# Altium schematic symbol library WL-OCHS.SchLib: 17 symbols
Pins are listed as number, name and electrical type; pins without a type are passive.

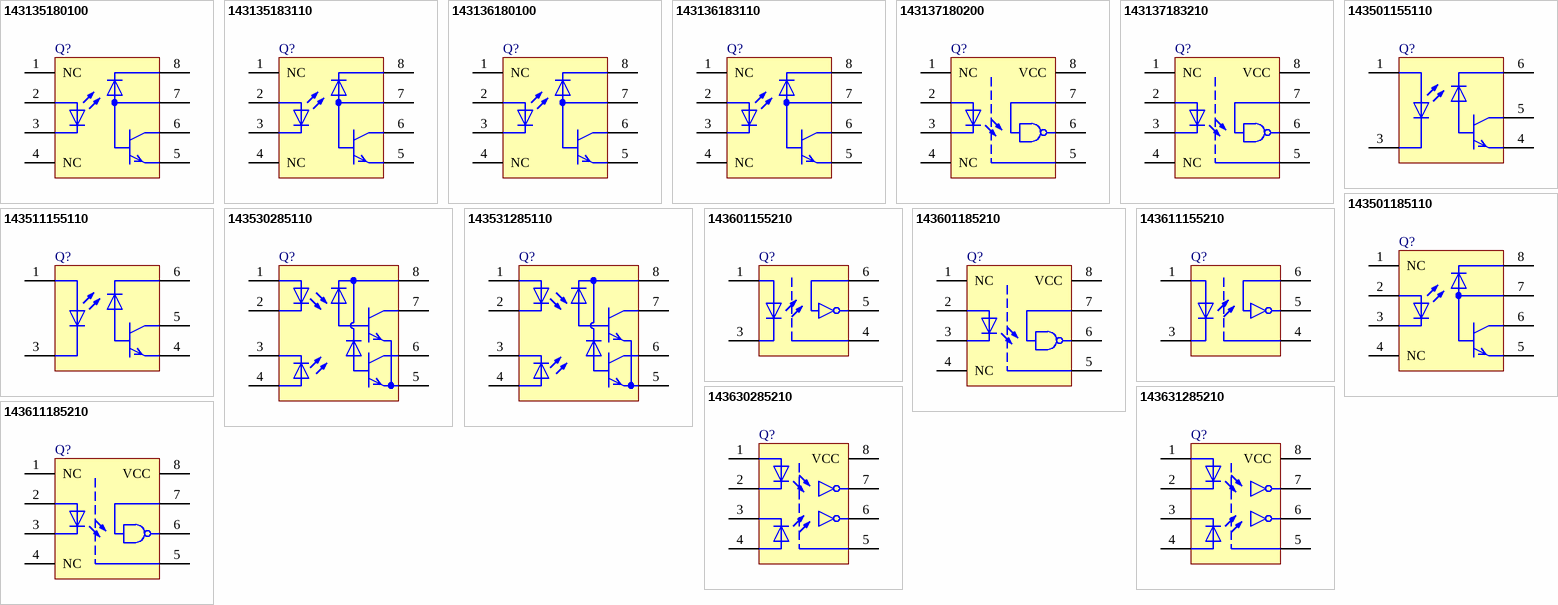
[diagram p0: symbols 143135180100 to 143631285210]

## 143135180100
designator Q?  (value not drawn)
WL-OCHS Optocoupler High Speed, THT, DIP 8_Standard, 5000V; Manufacturer: Wurth Elektronik; Common Mode Transient Immunity to Low Level: 1kV/us; Isolation Voltage: 5000V (RMS); Propagation Delay time to High Level: 1300ns; Manufacturer Part Number: 143135180100; Product Series: WL-OCHS; ComponentLink1Description: Website Link; ComponentLink1URL: https://www.we-online.com; ComponentLink2Description: Datasheet Link; ComponentLink2URL: https://www.we-online.com/components/products/datasheet/143135180100; Mount: Through Hole; Operating Temperature Min: -40degC; Operating Temperature Max: 110degC; Packaging: Tube; Case/Size Code: DIP 8_Standard; Length: 9.76mm; Width: 9.5mm; Height: 4.5mm
footprint WL-OCHS_DIP 8_Standard
pins: 1 NC, 2 ANODE, 3 CATHODE, 4 NC, 5 GND, 6 VOUT, 7 VBASE, 8 VCC

## 143135183110
designator Q?  (value not drawn)
WL-OCHS Optocoupler High Speed, SMT, DIP 8_SL-Type, 5000V; Manufacturer: Wurth Elektronik; Common Mode Transient Immunity to Low Level: 1kV/us; Isolation Voltage: 5000V (RMS); Propagation Delay time to High Level: 1300ns; Manufacturer Part Number: 143135183110; Product Series: WL-OCHS; ComponentLink1Description: Website Link; ComponentLink1URL: https://www.we-online.com; ComponentLink2Description: Datasheet Link; ComponentLink2URL: https://www.we-online.com/components/products/datasheet/143135183110; Mount: Surface Mount; Operating Temperature Min: -40degC; Operating Temperature Max: 110degC; Packaging: Tape and Reel; Case/Size Code: DIP 8_SL-Type; Length: 9.68mm; Width: 10.16mm; Height: 3.5mm
footprint WL-OCHS_DIP 8_SL-Type
pins: 1 NC, 2 ANODE, 3 CATHODE, 4 NC, 5 GND, 6 VOUT, 7 VBASE, 8 VCC

## 143136180100
designator Q?  (value not drawn)
WL-OCHS Optocoupler High Speed, THT, DIP 8_Standard, 5000V; Manufacturer: Wurth Elektronik; Common Mode Transient Immunity to Low Level: 1kV/us; Isolation Voltage: 5000V (RMS); Propagation Delay time to High Level: 600ns; Manufacturer Part Number: 143136180100; Product Series: WL-OCHS; ComponentLink1Description: Website Link; ComponentLink1URL: https://www.we-online.com; ComponentLink2Description: Datasheet Link; ComponentLink2URL: https://www.we-online.com/components/products/datasheet/143136180100; Mount: Through Hole; Operating Temperature Min: -40degC; Operating Temperature Max: 110degC; Packaging: Tube; Case/Size Code: DIP 8_Standard; Length: 9.76mm; Width: 9.5mm; Height: 4.5mm
footprint WL-OCHS_DIP 8_Standard
pins: 1 NC, 2 ANODE, 3 CATHODE, 4 NC, 5 GND, 6 VOUT, 7 VBASE, 8 VCC

## 143136183110
designator Q?  (value not drawn)
WL-OCHS Optocoupler High Speed, SMT, DIP 8_SL-Type, 5000V; Manufacturer: Wurth Elektronik; Common Mode Transient Immunity to Low Level: 1kV/us; Isolation Voltage: 5000V (RMS); Propagation Delay time to High Level: 600ns; Manufacturer Part Number: 143136183110; Product Series: WL-OCHS; ComponentLink1Description: Website Link; ComponentLink1URL: https://www.we-online.com; ComponentLink2Description: Datasheet Link; ComponentLink2URL: https://www.we-online.com/components/products/datasheet/143136183110; Mount: Surface Mount; Operating Temperature Min: -40degC; Operating Temperature Max: 110degC; Packaging: Tape and Reel; Case/Size Code: DIP 8_SL-Type; Length: 9.68mm; Width: 10.16mm; Height: 3.5mm
footprint WL-OCHS_DIP 8_SL-Type
pins: 1 NC, 2 ANODE, 3 CATHODE, 4 NC, 5 GND, 6 VOUT, 7 VBASE, 8 VCC

## 143137180200
designator Q?  (value not drawn)
WL-OCHS Optocoupler High Speed, THT, DIP 8_Standard, 5000V; Manufacturer: Wurth Elektronik; Common Mode Transient Immunity to Low Level: 5kV/us; Isolation Voltage: 5000V (RMS); Propagation Delay time to High Level: 41ns; Threshold Current: 3mA; Manufacturer Part Number: 143137180200; Product Series: WL-OCHS; ComponentLink1Description: Website Link; ComponentLink1URL: https://www.we-online.com; ComponentLink2Description: Datasheet Link; ComponentLink2URL: https://www.we-online.com/components/products/datasheet/143137180200; Mount: Through Hole; Operating Temperature Min: -40degC; Operating Temperature Max: 85degC; Packaging: Tube; Case/Size Code: DIP 8_Standard; Length: 9.76mm; Width: 9.5mm; Height: 4.5mm
footprint WL-OCHS_DIP 8_Standard
pins: 1 NC, 2 ANODE, 3 CATHODE, 4 NC, 5 GND, 6 VOUT, 7 EN, 8 VCC

## 143137183210
designator Q?  (value not drawn)
WL-OCHS Optocoupler High Speed, SMT, DIP 8_SL-Type, 5000V; Manufacturer: Wurth Elektronik; Common Mode Transient Immunity to Low Level: 5kV/us; Isolation Voltage: 5000V (RMS); Propagation Delay time to High Level: 41ns; Threshold Current: 3mA; Manufacturer Part Number: 143137183210; Product Series: WL-OCHS; ComponentLink1Description: Website Link; ComponentLink1URL: https://www.we-online.com; ComponentLink2Description: Datasheet Link; ComponentLink2URL: https://www.we-online.com/components/products/datasheet/143137183210; Mount: Surface Mount; Operating Temperature Min: -40degC; Operating Temperature Max: 85degC; Packaging: Tape and Reel; Case/Size Code: DIP 8_SL-Type; Length: 9.68mm; Width: 10.16mm; Height: 3.5mm
footprint WL-OCHS_DIP 8_SL-Type
pins: 1 NC, 2 ANODE, 3 CATHODE, 4 NC, 5 GND, 6 VOUT, 7 EN, 8 VCC

## 143501155110
designator Q?  (value not drawn)
WL-OCHS Optocoupler High Speed, SMT, SOP5, 3750V; Manufacturer: Wurth Elektronik; Common Mode Transient Immunity to Low Level: 5kV/us; Isolation Voltage: 3750V (RMS); Propagation Delay time to High Level: 150ns; Manufacturer Part Number: 143501155110; Product Series: WL-OCHS; ComponentLink1Description: Website Link; ComponentLink1URL: https://www.we-online.com; ComponentLink2Description: Datasheet Link; ComponentLink2URL: https://www.we-online.com/components/products/datasheet/143501155110; Mount: Surface Mount; Operating Temperature Min: -40degC; Operating Temperature Max: 110degC; Packaging: Tape and Reel; Case/Size Code: SOP5; Length: 4.1mm; Width: 7mm; Height: 2.05mm
footprint WL-OCHS_SOP5
pins: 1 ANODE, 3 CATHODE, 4 GND, 5 VOUT, 6 VCC

## 143501185110
designator Q?  (value not drawn)
WL-OCHS Optocoupler High Speed, SMT, SOP8, 3750V; Manufacturer: Wurth Elektronik; Common Mode Transient Immunity to Low Level: 5kV/us; Isolation Voltage: 3750V (RMS); Propagation Delay time to High Level: 150ns; Manufacturer Part Number: 143501185110; Product Series: WL-OCHS; ComponentLink1Description: Website Link; ComponentLink1URL: https://www.we-online.com; ComponentLink2Description: Datasheet Link; ComponentLink2URL: https://www.we-online.com/components/products/datasheet/143501185110; Mount: Surface Mount; Operating Temperature Min: -40degC; Operating Temperature Max: 110degC; Packaging: Tape and Reel; Case/Size Code: SOP8; Length: 5.08mm; Width: 6mm; Height: 3.18mm
footprint WL-OCHS_SOP8
pins: 1 NC, 2 ANODE, 3 CATHODE, 4 NC, 5 GND, 6 VOUT, 7 VBASE, 8 VCC

## 143511155110
designator Q?  (value not drawn)
WL-OCHS Optocoupler High Speed, SMT, SOP5, 3750V; Manufacturer: Wurth Elektronik; Common Mode Transient Immunity to Low Level: 15kV/us; Isolation Voltage: 3750V (RMS); Propagation Delay time to High Level: 150ns; Manufacturer Part Number: 143511155110; Product Series: WL-OCHS; ComponentLink1Description: Website Link; ComponentLink1URL: https://www.we-online.com; ComponentLink2Description: Datasheet Link; ComponentLink2URL: https://www.we-online.com/components/products/datasheet/143511155110; Mount: Surface Mount; Operating Temperature Min: -40degC; Operating Temperature Max: 110degC; Packaging: Tape and Reel; Case/Size Code: SOP5; Length: 4.1mm; Width: 7mm; Height: 2.05mm
footprint WL-OCHS_SOP5
pins: 1 ANODE, 3 CATHODE, 4 GND, 5 VOUT, 6 VCC

## 143530285110
designator Q?  (value not drawn)
WL-OCHS Optocoupler High Speed, SMT, SOP8, 3750V; Manufacturer: Wurth Elektronik; Common Mode Transient Immunity to Low Level: 1kV/us; Isolation Voltage: 3750V (RMS); Propagation Delay time to High Level: 600ns; Manufacturer Part Number: 143530285110; Product Series: WL-OCHS; ComponentLink1Description: Website Link; ComponentLink1URL: https://www.we-online.com; ComponentLink2Description: Datasheet Link; ComponentLink2URL: https://www.we-online.com/components/products/datasheet/143530285110; Mount: Surface Mount; Operating Temperature Min: -40degC; Operating Temperature Max: 110degC; Packaging: Tape and Reel; Case/Size Code: SOP8; Length: 5.08mm; Width: 6mm; Height: 3.18mm
footprint WL-OCHS_SOP8
pins: 1 ANODE1, 2 CATHODE1, 3 CATHODE2, 4 ANODE2, 5 GND, 6 VOUT2, 7 VOUT1, 8 VCC

## 143531285110
designator Q?  (value not drawn)
WL-OCHS Optocoupler High Speed, SMT, SOP8, 3750V; Manufacturer: Wurth Elektronik; Common Mode Transient Immunity to Low Level: 1kV/us; Isolation Voltage: 3750V (RMS); Propagation Delay time to High Level: 600ns; Manufacturer Part Number: 143531285110; Product Series: WL-OCHS; ComponentLink1Description: Website Link; ComponentLink1URL: https://www.we-online.com; ComponentLink2Description: Datasheet Link; ComponentLink2URL: https://www.we-online.com/components/products/datasheet/143531285110; Mount: Surface Mount; Operating Temperature Min: -40degC; Operating Temperature Max: 110degC; Packaging: Tape and Reel; Case/Size Code: SOP8; Length: 5.08mm; Width: 6mm; Height: 3.18mm
footprint WL-OCHS_SOP8
pins: 1 ANODE1, 2 CATHODE1, 3 CATHODE2, 4 ANODE2, 5 GND, 6 VOUT2, 7 VOUT1, 8 VCC

## 143601155210
designator Q?  (value not drawn)
WL-OCHS Optocoupler High Speed, SMT, SOP5, 3750V; Manufacturer: Wurth Elektronik; Common Mode Transient Immunity to Low Level: 5kV/us; Isolation Voltage: 3750V (RMS); Propagation Delay time to High Level: 41ns; Threshold Current: 2.5mA; Manufacturer Part Number: 143601155210; Product Series: WL-OCHS; ComponentLink1Description: Website Link; ComponentLink1URL: https://www.we-online.com; ComponentLink2Description: Datasheet Link; ComponentLink2URL: https://www.we-online.com/components/products/datasheet/143601155210; Mount: Surface Mount; Operating Temperature Min: -40degC; Operating Temperature Max: 85degC; Packaging: Tape and Reel; Case/Size Code: SOP5; Length: 4.1mm; Width: 7mm; Height: 2.05mm
footprint WL-OCHS_SOP5
pins: 1 ANODE, 3 CATHODE, 4 GND, 5 VOUT, 6 VCC

## 143601185210
designator Q?  (value not drawn)
WL-OCHS Optocoupler High Speed, SMT, SOP8, 3750V; Manufacturer: Wurth Elektronik; Common Mode Transient Immunity to Low Level: 5kV/us; Isolation Voltage: 3750V (RMS); Propagation Delay time to High Level: 41ns; Threshold Current: 3mA; Manufacturer Part Number: 143601185210; Product Series: WL-OCHS; ComponentLink1Description: Website Link; ComponentLink1URL: https://www.we-online.com; ComponentLink2Description: Datasheet Link; ComponentLink2URL: https://www.we-online.com/components/products/datasheet/143601185210; Mount: Surface Mount; Operating Temperature Min: -40degC; Operating Temperature Max: 105degC; Packaging: Tape and Reel; Case/Size Code: SOP8; Length: 5.08mm; Width: 6mm; Height: 3.18mm
footprint WL-OCHS_SOP8
pins: 1 NC, 2 ANODE, 3 CATHODE, 4 NC, 5 GND, 6 VOUT, 7 EN, 8 VCC

## 143611155210
designator Q?  (value not drawn)
WL-OCHS Optocoupler High Speed, SMT, SOP5, 3750V; Manufacturer: Wurth Elektronik; Common Mode Transient Immunity to Low Level: 20kV/us; Isolation Voltage: 3750V (RMS); Propagation Delay time to High Level: 41ns; Threshold Current: 2.5mA; Manufacturer Part Number: 143611155210; Product Series: WL-OCHS; ComponentLink1Description: Website Link; ComponentLink1URL: https://www.we-online.com; ComponentLink2Description: Datasheet Link; ComponentLink2URL: https://www.we-online.com/components/products/datasheet/143611155210; Mount: Surface Mount; Operating Temperature Min: -40degC; Operating Temperature Max: 85degC; Packaging: Tape and Reel; Case/Size Code: SOP5; Length: 4.1mm; Width: 7mm; Height: 2.05mm
footprint WL-OCHS_SOP5
pins: 1 ANODE, 3 CATHODE, 4 GND, 5 VOUT, 6 VCC

## 143611185210
designator Q?  (value not drawn)
WL-OCHS Optocoupler High Speed, SMT, SOP8, 3750V; Manufacturer: Wurth Elektronik; Common Mode Transient Immunity to Low Level: 20kV/us; Isolation Voltage: 3750V (RMS); Propagation Delay time to High Level: 41ns; Threshold Current: 3mA; Manufacturer Part Number: 143611185210; Product Series: WL-OCHS; ComponentLink1Description: Website Link; ComponentLink1URL: https://www.we-online.com; ComponentLink2Description: Datasheet Link; ComponentLink2URL: https://www.we-online.com/components/products/datasheet/143611185210; Mount: Surface Mount; Operating Temperature Min: -40degC; Operating Temperature Max: 105degC; Packaging: Tape and Reel; Case/Size Code: SOP8; Length: 5.08mm; Width: 6mm; Height: 3.18mm
footprint WL-OCHS_SOP8
pins: 1 NC, 2 ANODE, 3 CATHODE, 4 NC, 5 GND, 6 VOUT, 7 EN, 8 VCC

## 143630285210
designator Q?  (value not drawn)
WL-OCHS Optocoupler High Speed, SMT, SOP8, 3750V; Manufacturer: Wurth Elektronik; Common Mode Transient Immunity to Low Level: 5kV/us; Isolation Voltage: 3750V (RMS); Propagation Delay time to High Level: 48ns; Threshold Current: 2.4mA; Manufacturer Part Number: 143630285210; Product Series: WL-OCHS; ComponentLink1Description: Website Link; ComponentLink1URL: https://www.we-online.com; ComponentLink2Description: Datasheet Link; ComponentLink2URL: https://www.we-online.com/components/products/datasheet/143630285210; Mount: Surface Mount; Operating Temperature Min: -40degC; Operating Temperature Max: 85degC; Packaging: Tape and Reel; Case/Size Code: SOP8; Length: 5.08mm; Width: 6mm; Height: 3.18mm
footprint WL-OCHS_SOP8
pins: 1 ANODE1, 2 CATHODE1, 3 CATHODE2, 4 ANODE2, 5 GND, 6 VOUT2, 7 VOUT1, 8 VCC

## 143631285210
designator Q?  (value not drawn)
WL-OCHS Optocoupler High Speed, SMT, SOP8, 3750V; Manufacturer: Wurth Elektronik; Common Mode Transient Immunity to Low Level: 10kV/us; Isolation Voltage: 3750V (RMS); Propagation Delay time to High Level: 48ns; Threshold Current: 2.4mA; Manufacturer Part Number: 143631285210; Product Series: WL-OCHS; ComponentLink1Description: Website Link; ComponentLink1URL: https://www.we-online.com; ComponentLink2Description: Datasheet Link; ComponentLink2URL: https://www.we-online.com/components/products/datasheet/143631285210; Mount: Surface Mount; Operating Temperature Min: -40degC; Operating Temperature Max: 85degC; Packaging: Tape and Reel; Case/Size Code: SOP8; Length: 5.08mm; Width: 6mm; Height: 3.18mm
footprint WL-OCHS_SOP8
pins: 1 ANODE1, 2 CATHODE1, 3 CATHODE2, 4 ANODE2, 5 GND, 6 VOUT2, 7 VOUT1, 8 VCC